# Altium footprint library Amphenol.PcbLib: 5 footprints
Each footprint in its own frame and in the unit in brackets; x right, y up, seen from the top. Pads: shape width x height; smd on the part's side, far side on the other; paste and mask are expansions set on the pad; w line width, h text height; cw(c..) or ccw(c..) is an arc to the next point about the centre after c.
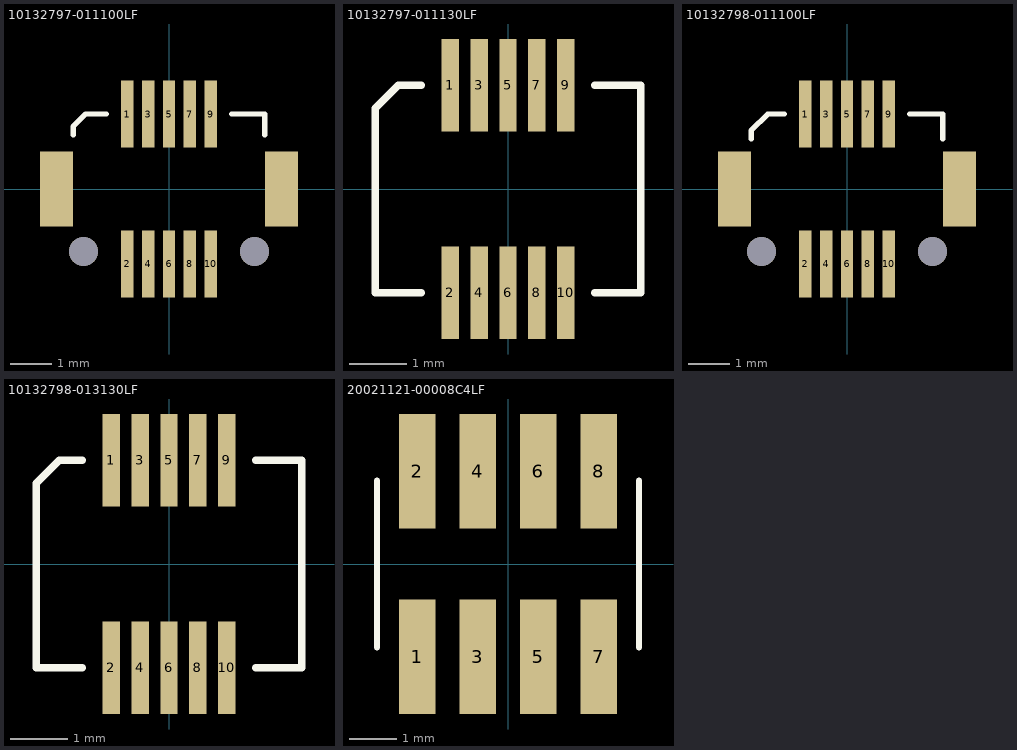
[diagram p0: the footprints below, top view; thin cyan lines are the x and y axes]

## 10132797-011100LF [mm] "BergStak® 0.5mm Mezzanine Connector, Board To Board Connectors, 10 position, 2.15mm height receptacle connector."
pads (14):
  rect 0.3x1.6 smd: 1(-1,1.8) 2(-1,-1.8) 3(-0.5,1.8) 4(-0.5,-1.8) 5(0,1.8) 6(0,-1.8) 7(0.5,1.8) 8(0.5,-1.8) 9(1,1.8) 10(1,-1.8)
  rect 0.8x1.8 smd: ""(-2.7,0) ""(2.7,0)
  round 0.7 hole 0.7: ""(-2.05,-1.5) ""(2.05,-1.5)
Top Overlay:
  lines w0.127: -2.3,1.3 -2.3,1.5 -2,1.8 -1.5,1.8 ; 1.5,1.8 2.3,1.8 2.3,1.3
3D body "10132798-011100LF.stp": height 2.13, standoff -0.42, extent -2.75,-2.3 2.75,2.3

## 10132797-011130LF [mm] "BergStak® 0.5mm Mezzanine Connector, Board To Board Connectors, 10 position, 2.15mm height receptacle connector."
pads (10):
  rect 0.3x1.6 smd: 1(-1,1.8) 2(-1,-1.8) 3(-0.5,1.8) 4(-0.5,-1.8) 5(0,1.8) 6(0,-1.8) 7(0.5,1.8) 8(0.5,-1.8) 9(1,1.8) 10(1,-1.8)
Top Overlay:
  lines w0.127: -1.5,-1.8 -2.3,-1.8 -2.3,1.4 -1.9,1.8 -1.5,1.8 ; 1.5,-1.8 2.3,-1.8 2.3,1.8 1.5,1.8
3D body "10132798-011130LF.stp": height 2.13, standoff -0.02, extent -2.3,-2.3 2.3,2.3

## 10132798-011100LF [mm] "BergStak® 0.5mm Mezzanine Connector, Board To Board Connectors, 10 position, 2.3mm height plug connector."
pads (14):
  rect 0.3x1.6 smd: 1(-1,1.8) 2(-1,-1.8) 3(-0.5,1.8) 4(-0.5,-1.8) 5(0,1.8) 6(0,-1.8) 7(0.5,1.8) 8(0.5,-1.8) 9(1,1.8) 10(1,-1.8)
  rect 0.8x1.8 smd: ""(-2.7,0) ""(2.7,0)
  round 0.7 hole 0.7: ""(-2.05,-1.5) ""(2.05,-1.5)
Top Overlay:
  lines w0.127: -2.3,1.2 -2.3,1.4 -1.9,1.8 -1.5,1.8 ; 1.5,1.8 2.3,1.8 2.3,1.2
3D body "10132797-011100LF.stp": height 2.28, standoff -0.42, extent -2.75,-2.3 2.75,2.3

## 10132798-013130LF [mm] "BergStak® 0.5mm Mezzanine Connector, Board To Board Connectors, 10 position, 3.3mm height plug connector."
pads (10):
  rect 0.3x1.6 smd: 1(-1,1.8) 2(-1,-1.8) 3(-0.5,1.8) 4(-0.5,-1.8) 5(0,1.8) 6(0,-1.8) 7(0.5,1.8) 8(0.5,-1.8) 9(1,1.8) 10(1,-1.8)
Top Overlay:
  lines w0.127: -1.5,-1.8 -2.3,-1.8 -2.3,1.4 -1.9,1.8 -1.5,1.8 ; 1.5,-1.8 2.3,-1.8 2.3,1.8 1.5,1.8
3D body "10132797-013130LF.stp": height 3.28, standoff -0.02, extent -2.35,-2.3 2.35,2.3

## 20021121-00008C4LF [mm]
pads (8):
  rect 0.76x2.4 smd: 1(-1.905,-1.95) 2(-1.905,1.95) 3(-0.635,-1.95) 4(-0.635,1.95) 5(0.635,-1.95) 6(0.635,1.95) 7(1.905,-1.95) 8(1.905,1.95)
Top Overlay:
  lines w0.127: -2.75,-1.75 -2.75,1.75 ; 2.75,-1.75 2.75,1.75
3D body "20021121-00008C4LF_custom.stp": height 4.55, standoff 0, extent -2.54,-2.75 2.54,2.75